# Altium schematic symbol library Other.SchLib: 3 symbols
Pins are listed as number, name and electrical type; pins without a type are passive.

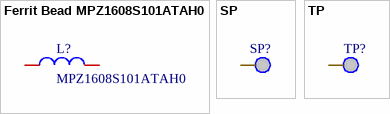
[diagram p0: symbols Ferrit Bead MPZ1608S101ATAH0 to TP]

## Ferrit Bead MPZ1608S101ATAH0
designator L?, comment MPZ1608S101ATAH0
30mΩ ±25% 100Ω@100MHz 0603 Ferrite Beads ROHS; Manufacturer: TDK; Current Rating: 3A; Mfr. Part #: MPZ1608S101ATAH0; LCSC Part #: C107332; Package: 0603; Tolerance: ±25%; Link: https://www.lcsc.com/product-detail/C107332.html?s_z=n_mpz1608s101atah0; DC Resistance(DCR): 30mΩ; Impedance @ Frequency: 100Ω@100MHz
pins: 7, 8

## SP
designator SP?  (value not drawn)
footprint SP
pins: 1

## TP
designator TP?
footprint TP
pins: 1